# Altium footprint library TE_1825027-6.PcbLib: 1 footprints
Each footprint in its own frame and in the unit in brackets; x right, y up, seen from the top. Pads: shape width x height; smd on the part's side, far side on the other; paste and mask are expansions set on the pad; w line width, h text height; cw(c..) or ccw(c..) is an arc to the next point about the centre after c.
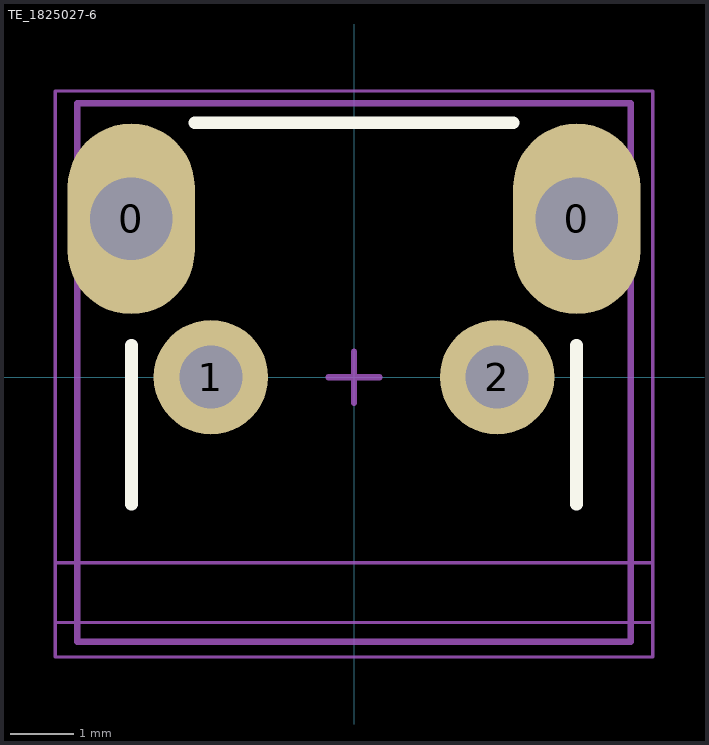
[diagram p0: the footprint, top view; thin cyan lines are the x and y axes]

## TE_1825027-6 [mm]
height 7.31
pads (4):
  oval 2x3 hole 1.3: 0(-3.505,2.49) 0(3.505,2.49)
  round 1.8 hole 0.99: 1(-2.25,0) 2(2.25,0)
Top Overlay:
  lines w0.2: -3.5,-2 -3.5,0.5 ; -2.5,4 2.5,4 ; 3.5,-2 3.5,0.5
Mechanical 13:
  lines w0.1: -4.355,-4.16 -4.355,4.31 4.355,4.31 4.355,-4.16 -4.355,-4.16
Mechanical 15:
  lines w0.05: -4.7,-3.86 4.7,-3.86 ; -4.7,-2.92 4.7,-2.92 ; -4.7,-4.4 -4.7,4.5 4.7,4.5 4.7,-4.4 -4.7,-4.4
  lines w0.1: -0.4,0 0.4,0 ; 0,-0.4 0,0.4
  text "Bump" at -0.902,-2.703 h0.5
  text "Button Tip" at -1.714,-3.643 h0.5
3D body "TE_1825027-6.stp": height 7, standoff -3.52, extent -4.204,-3.845 4.204,4.017